# Altium schematic symbol library Transformers.SchLib: 2 symbols
Pins are listed as number, name and electrical type; pins without a type are passive.

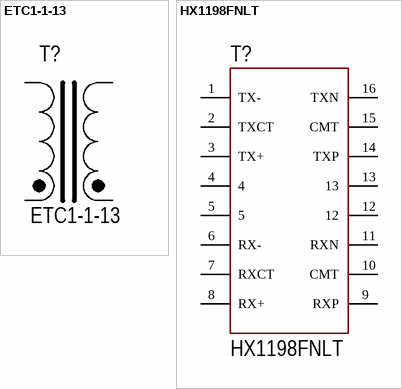
[diagram p0: symbols ETC1-1-13 to HX1198FNLT]

## ETC1-1-13
designator T?
RF Transformer 1:1 ratio,  4.5 to 3000 MHZ; Part: ETC1-1-13
footprint ETC1-1-13
pins: 1, 2 hidden to GND, 3, 4, 5

## HX1198FNLT
designator T?
350µH LAN 10/100 Base-T Pulse Transformer 1CT:1CT Transmitter, 1CT:1CT Receiver Surface Mount
footprint HX1198FNLT
pins: 1 TX-, 2 TXCT, 3 TX+, 4, 5, 6 RX-, 7 RXCT, 8 RX+, 9 RXP, 10 CMT, 11 RXN, 12, 13, 14 TXP, 15 CMT, 16 TXN